# Altium footprint library Passives.PcbLib: 27 footprints (part 1 of 2)
Each footprint in its own frame and in the unit in brackets; x right, y up, seen from the top. Pads: shape width x height; smd on the part's side, far side on the other; paste and mask are expansions set on the pad; w line width, h text height; cw(c..) or ccw(c..) is an arc to the next point about the centre after c.
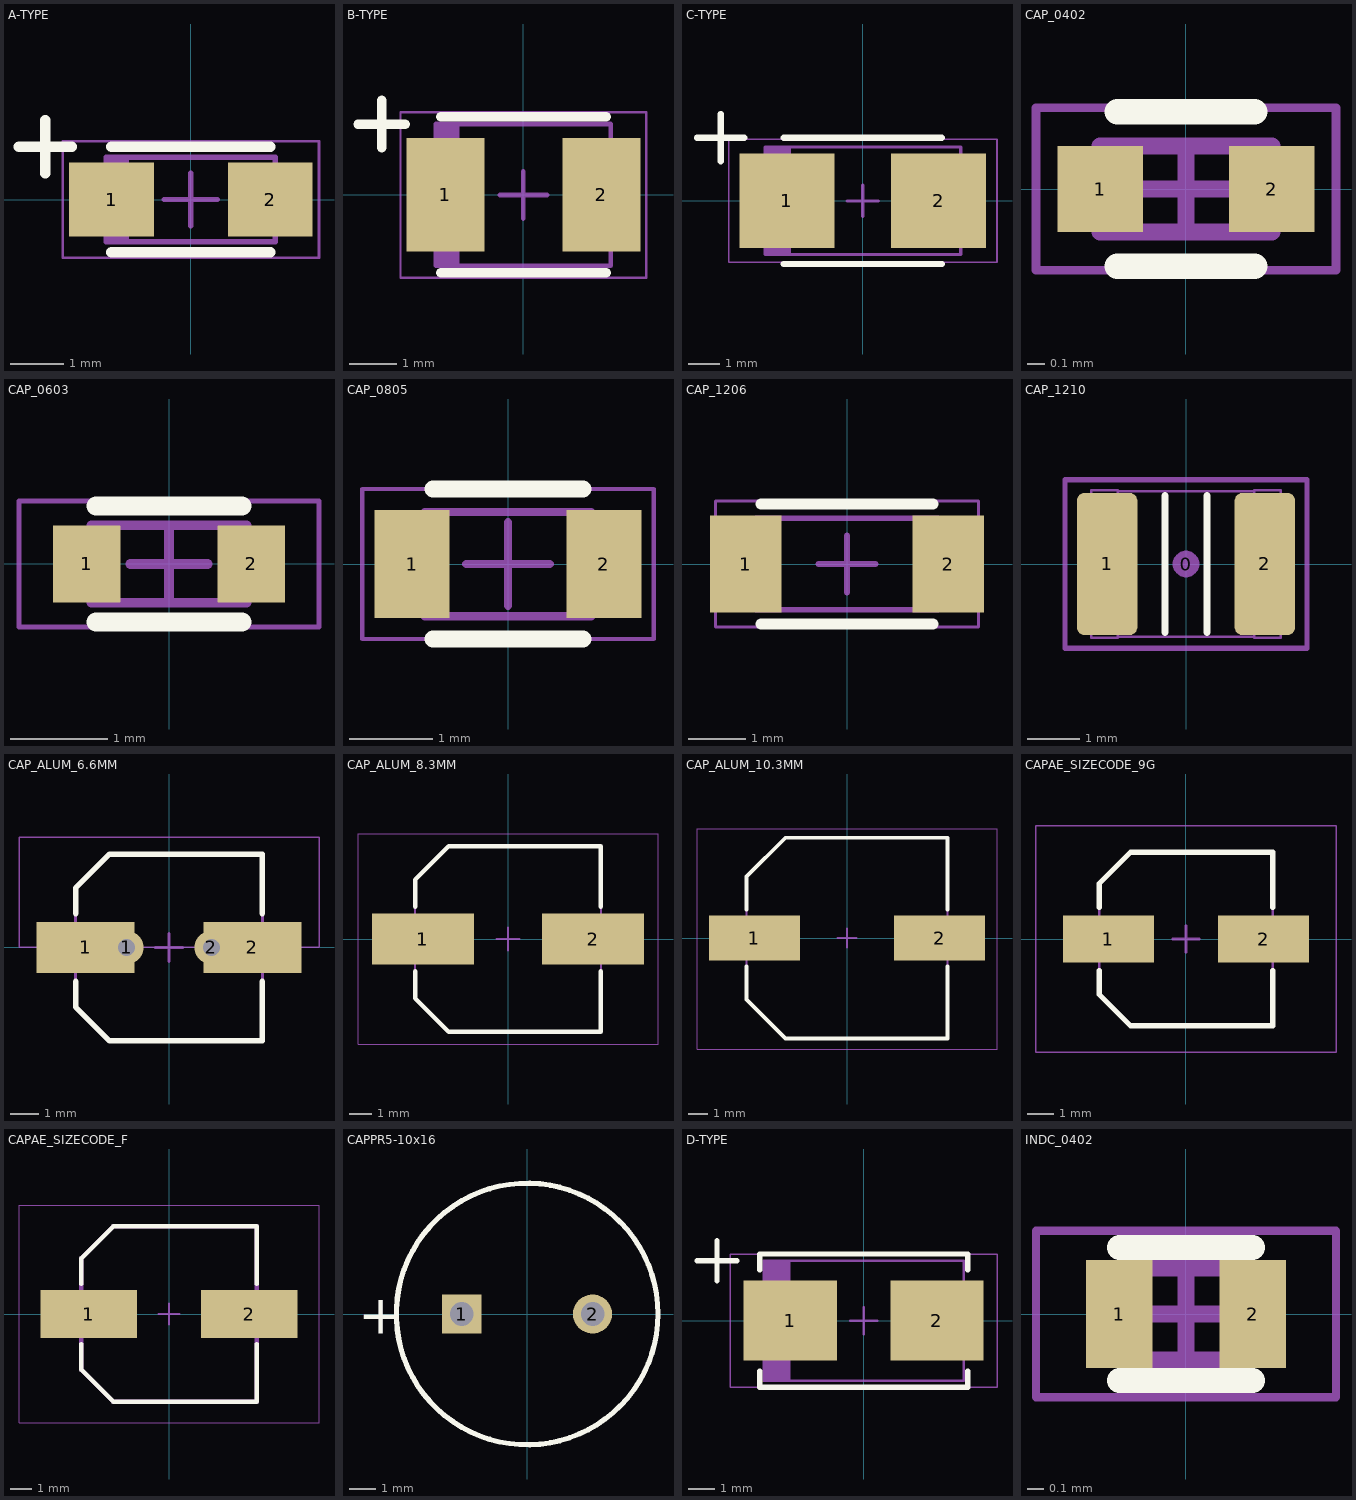
[diagram p0: the footprints below, top view; thin cyan lines are the x and y axes]

## A-TYPE [mm] "Molded Capacitor, 2-Leads, Body 3,20x1,60mm, IPC Medium Density"
height 1.8
pads (2):
  rect 1.6x1.4 smd: 1(-1.5,0) 2(1.5,0)
Top Overlay:
  lines w0.2: -3.25,1 -2.25,1 ; -2.75,0.5 -2.75,1.5 ; -1.5,-1 1.5,-1 ; -1.5,1 1.5,1
Mechanical 13:
  rectangle: -1.6,-0.8 -1.17,0.8
  lines w0.1: -1.6,-0.8 -1.6,0.8 1.6,0.8 1.6,-0.8 -1.6,-0.8
Mechanical 15:
  lines w0.05: -2.425,-1.1 -2.425,1.1 2.425,1.1 2.425,-1.1 -2.425,-1.1
  lines w0.1: -0.5,0 0.5,0 ; 0,-0.5 0,0.5
3D body "User Library-A Case SMT Capacitor.step": height 1.59, standoff -0.01, extent -1.587,-0.8 1.587,0.8

## B-TYPE [mm] "Molded Capacitor, 2-Leads, Body 3,50x2,80mm, IPC Medium Density"
height 2.1
pads (2):
  rect 1.65x2.4 smd: 1(-1.65,0) 2(1.65,0)
Top Overlay:
  lines w0.2: -3.5,1.5 -2.5,1.5 ; -3,1 -3,2 ; -1.75,-1.65 1.75,-1.65 ; -1.75,1.65 1.75,1.65
Mechanical 13:
  rectangle: -1.85,-1.5 -1.352,1.5
  lines w0.1: -1.85,-1.5 1.85,-1.5 1.85,1.5 -1.85,1.5 -1.85,-1.5
Mechanical 15:
  lines w0.05: -2.6,-1.75 2.6,-1.75 2.6,1.75 -2.6,1.75 -2.6,-1.75
  lines w0.1: -0.5,0 0.5,0 ; 0,-0.5 0,0.5
3D body "User Library-AVX_BCASE.step": height 2.03, standoff 0, extent -1.85,-1.465 1.85,1.465

## C-TYPE [mm] "Molded Capacitor, 2-Leads, Body 6,00x3,20mm, IPC Medium Density"
height 2.8
pads (2):
  rect 3x3 smd: 1(-2.4,0) 2(2.4,0)
Top Overlay:
  lines w0.2: -5.25,2 -3.75,2 ; -4.5,1.25 -4.5,2.75 ; -2.5,-2 2.5,-2 ; -2.5,2 2.5,2
Mechanical 13:
  rectangle: -3.1,-1.7 -2.266,1.7
  lines w0.1: -3.1,-1.7 3.1,-1.7 3.1,1.7 -3.1,1.7 -3.1,-1.7
Mechanical 15:
  lines w0.05: -4.25,-1.95 4.25,-1.95 4.25,1.95 -4.25,1.95 -4.25,-1.95
  lines w0.1: -0.5,0 0.5,0 ; 0,-0.5 0,0.5
3D body "User Library-cap_c.step": height 2.51, standoff 0, extent -2.997,-1.6 2.997,1.6

## CAP_0402 [mm] "Chip Capacitor, 2-Leads, Body 1,00x0,50mm, IPC Medium Density"
height 0.55
pads (2):
  rect 0.5x0.5 smd: 1(-0.5,0) 2(0.5,0)
Top Overlay:
  lines w0.15: -0.4,-0.45 0.4,-0.45 ; -0.4,0.45 0.4,0.45
Mechanical 13:
  lines w0.1: -0.5,-0.25 0.5,-0.25 0.5,0.25 -0.5,0.25 -0.5,-0.25
Mechanical 15:
  lines w0.05: -0.875,-0.475 0.875,-0.475 0.875,0.475 -0.875,0.475 -0.875,-0.475
  lines w0.1: -0.25,0 0.25,0 ; 0,-0.25 0,0.25
3D body "Chip Capacitor 0402.step": height 0.57, standoff 0, extent -0.5,-0.26 0.5,0.26

## CAP_0603 [mm] "Chip Capacitor, 2-Leads, Body 1,60x0,80mm, IPC Medium Density"
height 0.87
pads (2):
  rect 0.7x0.8 smd: 1(-0.85,0) 2(0.85,0)
Top Overlay:
  lines w0.2: -0.75,-0.6 0.75,-0.6 ; -0.75,0.6 0.75,0.6
Mechanical 13:
  lines w0.1: -0.8,-0.4 0.8,-0.4 0.8,0.4 -0.8,0.4 -0.8,-0.4
Mechanical 15:
  lines w0.05: -1.55,-0.65 1.55,-0.65 1.55,0.65 -1.55,0.65 -1.55,-0.65
  lines w0.1: -0.4,0 0.4,0 ; 0,-0.4 0,0.4
3D body "Chip Capacitor 0603.step": height 0.92, standoff 0, extent -0.8,-0.41 0.8,0.41

## CAP_0805 [mm] "Chip Capacitor, 2-Leads, Body 2,00x1,25mm, IPC Medium Density"
height 1.45
pads (2):
  rect 0.9x1.3 smd: 1(-1.15,0) 2(1.15,0)
Top Overlay:
  lines w0.2: -0.9,-0.9 0.9,-0.9 ; -0.9,0.9 0.9,0.9
Mechanical 13:
  lines w0.1: -1,-0.625 1,-0.625 1,0.625 -1,0.625 -1,-0.625
Mechanical 15:
  lines w0.05: -1.75,-0.9 1.75,-0.9 1.75,0.9 -1.75,0.9 -1.75,-0.9
  lines w0.1: -0.5,0 0.5,0 ; 0,-0.5 0,0.5
3D body "Chip Capacitor 0805.step": height 1.32, standoff 0, extent -1,-0.635 1,0.635

## CAP_1206 [mm] "Chip Capacitor, 2-Leads, Body 3,20x1,60mm, IPC Medium Density"
height 1.75
pads (2):
  rect 1.25x1.7 smd: 1(-1.775,0) 2(1.775,0)
Top Overlay:
  lines w0.2: -1.5,-1.05 1.5,-1.05 ; -1.5,1.05 1.5,1.05
Mechanical 13:
  lines w0.1: -1.6,-0.8 -1.6,0.8 1.6,0.8 1.6,-0.8 -1.6,-0.8
Mechanical 15:
  lines w0.05: -2.3,-1.1 -2.3,1.1 2.3,1.1 2.3,-1.1 -2.3,-1.1
  lines w0.1: -0.5,0 0.5,0 ; 0,-0.5 0,0.5
3D body "Chip Capacitor 1206.step": height 1.52, standoff 0, extent -1.6,-0.81 1.6,0.81

## CAP_1210 [mm] "Chip Capacitor, Body 3.2x2.5mm, EIA 1210, IPC Medium Density"
height 2.2
pads (3):
  round 0.508 on Mech15: 0(0,0)
  rrect25% 1.15x2.7 smd: 1(-1.5,0) 2(1.5,0)
Top Overlay:
  lines w0.127: -0.4,-1.3 -0.4,1.3 ; 0.4,-1.3 0.4,1.3
Mechanical 13:
  lines w0.05: -1.3,-1.38 1.3,-1.38 ; -1.3,1.38 1.3,1.38 ; -1.8,-1.4 -1.8,1.4 -1.3,1.4 -1.3,-1.4 -1.8,-1.4 ; 1.3,-1.4 1.8,-1.4 1.8,1.4 1.3,1.4 1.3,-1.4
Mechanical 15:
  lines w0.1: -2.3,-1.6 2.3,-1.6 2.3,1.6 -2.3,1.6 -2.3,-1.6
3D body "CAP_1210.STEP": height 2.19, standoff -0.01, extent -1.8,-1.4 1.8,1.4

## CAP_ALUM_6.6MM [mm] "Aluminum Electrolytic Capacitor, Body 6.60x6.60x7.70mm, IPC Low Density"
height 7.7
pads (4):
  rect 3.45x1.8 smd: 1(-2.95,0) 2(2.95,0)
  round 1.2 hole 0.6: 1(-1.5,0) 2(1.5,0)
Top Overlay:
  lines w0.2: -3.3,-1.2 -3.3,-2.1 -2.1,-3.3 3.3,-3.3 3.3,-1.2 ; -3.3,1.2 -3.3,2.1 -2.1,3.3 3.3,3.3 3.3,1.2
Mechanical 13:
  lines w0.1: -3.3,-2.1 -3.3,2.1 -2.1,3.3 3.3,3.3 3.3,-3.3 -2.1,-3.3 -3.3,-2.1
Mechanical 15:
  lines w0.05: -5.3,0 5.3,0 5.3,3.9 -5.3,3.9 -5.3,0
  lines w0.1: -0.5,0 0.5,0 ; 0,-0.5 0,0.5
3D body "CAP ALUM 6_6mm.STEP": height 7.7, standoff 0, extent -3.5,-3.3 3.5,3.3

## CAP_ALUM_8.3MM [mm] "Aluminum Electrolytic Capacitor, Body 8.30x8.30x10.50mm, IPC Low Density"
height 10.5
pads (2):
  rect 4.55x2.3 smd: 1(-3.8,0) 2(3.8,0)
Top Overlay:
  lines w0.2: -4.15,-1.45 -4.15,-2.65 -2.65,-4.15 4.15,-4.15 4.15,-1.45 ; -4.15,1.45 -4.15,2.65 -2.65,4.15 4.15,4.15 4.15,1.45
Mechanical 13:
  lines w0.1: -4.15,-2.65 -2.65,-4.15 4.15,-4.15 4.15,4.15 -2.65,4.15 -4.15,2.65 -4.15,-2.65
Mechanical 15:
  lines w0.05: -6.7,-4.7 -6.7,4.7 6.7,4.7 6.7,-4.7 -6.7,-4.7
  lines w0.1: -0.5,0 0.5,0 ; 0,-0.5 0,0.5
3D body "CAP ALUM 8_3mm.STEP": height 10.5, standoff 0, extent -4.95,-4.15 4.95,4.15

## CAP_ALUM_10.3MM [mm] "Aluminum Electrolytic Capacitor, Body 10.30x10.30x10.50mm, IPC Low Density"
height 10.5
pads (2):
  rect 4.65x2.3 smd: 1(-4.75,0) 2(4.75,0)
Top Overlay:
  lines w0.2: -5.15,-1.45 -5.15,-3.15 -3.15,-5.15 5.15,-5.15 5.15,-1.45 ; -5.15,1.45 -5.15,3.15 -3.15,5.15 5.15,5.15 5.15,1.45
Mechanical 13:
  lines w0.1: -5.15,-3.15 -3.15,-5.15 5.15,-5.15 5.15,5.15 -3.15,5.15 -5.15,3.15 -5.15,-3.15
Mechanical 15:
  lines w0.05: -7.7,-5.7 -7.7,5.6 7.7,5.6 7.7,-5.7 -7.7,-5.7
  lines w0.1: -0.5,0 0.5,0 ; 0,-0.5 0,0.5
3D body "CAP ALUM 10_3mm.STEP": height 10.5, standoff 0, extent -5.8,-5.15 5.8,5.15

## CAPAE_SIZECODE_9G [mm] "Aluminum Electrolytic Capacitor, Body 6,60x6,60x5,40mm"
height 5.4
pads (2):
  rect 3.45x1.8 smd: 1(-2.95,0) 2(2.95,0)
Top Overlay:
  lines w0.2: -3.3,-1.2 -3.3,-2.1 -2.1,-3.3 3.3,-3.3 3.3,-1.2 ; -3.3,1.2 -3.3,2.1 -2.1,3.3 3.3,3.3 3.3,1.2
Mechanical 13:
  lines w0.1: -3.3,-2.1 -3.3,2.1 -2.1,3.3 3.3,3.3 3.3,-3.3 -2.1,-3.3 -3.3,-2.1
Mechanical 15:
  lines w0.05: -5.7,-4.3 5.7,-4.3 5.7,4.3 -5.7,4.3 -5.7,-4.3
  lines w0.1: -0.5,0 0.5,0 ; 0,-0.5 0,0.5
3D body "Nichicon_CW6_3x7.step": height 6.91, standoff 0, extent -3.5,-3.3 3.5,3.3

## CAPAE_SIZECODE_F [mm] "Aluminum Electrolytic Capacitor, Body 8,30x8,30x10,20mm, IPC Low Density"
height 10.2
pads (2):
  rect 4.55x2.25 smd: 1(-3.8,0) 2(3.8,0)
Top Overlay:
  lines w0.2: -4.15,-1.425 -4.15,-2.638 -2.638,-4.15 4.15,-4.15 4.15,-1.425 ; -4.15,1.425 -4.15,2.637 -2.638,4.15 4.15,4.15 4.15,1.425
Mechanical 13:
  lines w0.2: -4.15,-2.638 -4.15,2.637 -2.638,4.15 4.15,4.15 4.15,-4.15 -2.638,-4.15 -4.15,-2.638
Mechanical 15:
  lines w0.05: -7.1,-5.15 7.1,-5.15 7.1,5.15 -7.1,5.15 -7.1,-5.15
  lines w0.1: -0.5,0 0.5,0 ; 0,-0.5 0,0.5
3D body "F8 330uF 10V.step": height 7.9, standoff -0.05, extent -5.5,-5.15 5.5,5.15

## CAPPR5-10x16 [mm] "Capacitor, Electrolytic, Radial; Body 10 x 16 mm (Dia.xH typ); Pin Spacing 5 mm (typ)"
height 14.5
pads (2):
  rect 1.5x1.5 hole 0.9: 1(-2.5,0)
  round 1.5 hole 0.9: 2(2.5,0)
Top Overlay:
  circle w0.2: c0,0 r5
  text "+" at -6.465,-0.75 h1.5
3D body "User Library-Cap-EL(10x16-5).step": height 16, standoff -3.3, extent -5,-4.997 5.002,4.997

## D-TYPE [mm] "Molded Capacitor, 2-Leads, Body 7,30x4,35mm, IPC Medium Density"
height 3.1
pads (2):
  rect 3.5x3 smd: 1(-2.75,0) 2(2.75,0)
Top Overlay:
  lines w0.2: -6.25,2.25 -4.75,2.25 ; -5.5,1.5 -5.5,3 ; -3.9,-1.9 -3.9,-2.5 3.9,-2.5 3.9,-1.9 ; -3.9,1.9 -3.9,2.5 3.9,2.5 3.9,1.9
Mechanical 13:
  rectangle: -3.75,-2.25 -2.741,2.25
  lines w0.1: -3.75,-2.25 3.75,-2.25 3.75,2.25 -3.75,2.25 -3.75,-2.25
Mechanical 15:
  lines w0.05: -5,-2.5 5,-2.5 5,2.5 -5,2.5 -5,-2.5
  lines w0.1: -0.5,0 0.5,0 ; 0,-0.5 0,0.5
3D body "User Library-cap_d.step": height 2.81, standoff 0, extent -3.647,-2.15 3.647,2.15

## INDC_0402 [mm] "Chip Inductor, 2-Leads, Body 1,00x0,55mm, IPC Medium Density"
height 0.6
pads (2):
  rect 0.4x0.65 smd: 1(-0.4,0) 2(0.4,0)
Top Overlay:
  lines w0.15: -0.4,-0.4 0.4,-0.4 ; -0.4,0.4 0.4,0.4
Mechanical 13:
  lines w0.1: -0.5,-0.275 -0.5,0.275 0.5,0.275 0.5,-0.275 -0.5,-0.275
Mechanical 15:
  lines w0.05: -0.9,-0.5 -0.9,0.5 0.9,0.5 0.9,-0.5 -0.9,-0.5
  lines w0.1: -0.275,0 0.275,0 ; 0,-0.275 0,0.275
3D body "Coilcraft-0402ME.step": height 0.51, standoff -0.01, extent -0.51,-0.381 0.51,0.381